# EAGLE library part DATAAQ2 (library daq2)
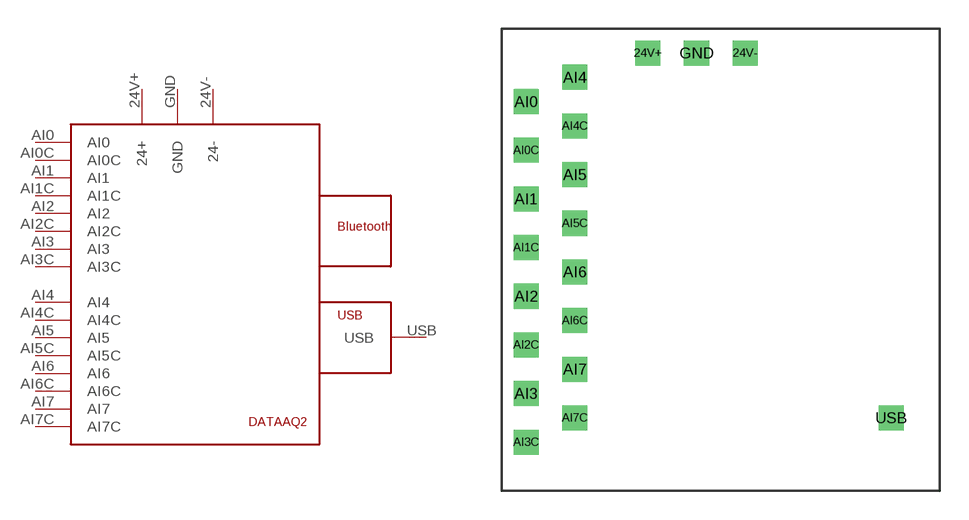
[diagram p0: symbol with the pads of DATAAQ2; footprint DATAAQ2]

Designator prefix -

## DATAAQ2  [DATAAQ2]
24V+  24+
24V-  24-
AI0  AI0
AI0C  AI0C
AI1  AI1
AI1C  AI1C
AI2  AI2
AI2C  AI2C
AI3  AI3
AI3C  AI3C
AI4  AI4
AI4C  AI4C
AI5  AI5
AI5C  AI5C
AI6  AI6
AI6C  AI6C
AI7  AI7
AI7C  AI7C
GND  GND
USB  USB

## Footprint DATAAQ2 (pad centres in mm)
drill 0.8 square: 24V+ -8.89,11.43; 24V- -3.81,11.43; AI0 -15.24,8.89; AI0C -15.24,6.35; AI1 -15.24,3.81; AI1C -15.24,1.27; AI2 -15.24,-1.27; AI2C -15.24,-3.81; AI3 -15.24,-6.35; AI3C -15.24,-8.89; AI4 -12.7,10.16; AI4C -12.7,7.62; AI5 -12.7,5.08; AI5C -12.7,2.54; AI6 -12.7,0; AI6C -12.7,-2.54; AI7 -12.7,-5.08; AI7C -12.7,-7.62; GND -6.35,11.43; USB 3.81,-7.62